# EAGLE library part BALUN (library CC2530_PCB_TL - Backup Copy - DO NOT EDIT)
2.45 GHz Impedance Matched Balun-BPF: For TI CC253X, CC254X, CC257X, CC853X and CC852X Chipset family P/N 2450BM15A0002
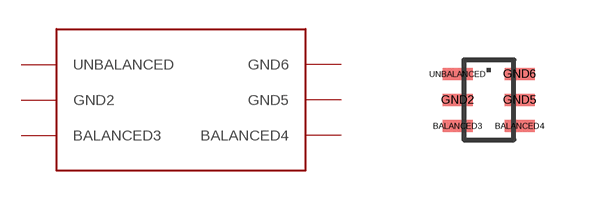
[diagram p4: symbol with the pads of BALUN; footprint BALUN]

Designator prefix -

## BALUN  [BALUN]
BALANCED3  BALANCED3
BALANCED4  BALANCED4
GND2  GND2  pwr
GND5  GND5  pwr
GND6  GND6  pwr
UNBALANCED  UNBALANCED

## Footprint BALUN (pad centres in mm)
2.45 GHz Impedance Matched Balun-BPF: For TI CC253X, CC254X, CC257X, CC853X and CC852X Chipset family P/N 2450BM15A0002
smd 0.75 x 0.3: BALANCED3 -0.782,-0.655; BALANCED4 0.768,-0.655; GND2 -0.782,-0.005; GND5 0.768,-0.005; GND6 0.768,0.645; UNBALANCED -0.782,0.645